# Altium schematic symbol library RES 0 JUMPER.Schlib: 1 symbol
Pins are listed as number, name and electrical type; pins without a type are passive.

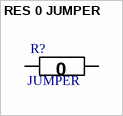
[diagram p0: symbol RES 0 JUMPER]

## RES 0 JUMPER
designator R?, comment JUMPER
RES SMD 0 OHM JUMPER GENERIC 0805; Value: 0; Package: 0805
footprint 0805
footprint 0603 (Chip Resistor, 2-Leads, Body 1.60x0.80mm, IPC High Density)
pins: 1 R1, 2 R2